# Altium footprint library OWMR.PcbLib: 36 footprints (part 3 of 3)
Each footprint in its own frame and in the unit in brackets; x right, y up, seen from the top. Pads: shape width x height; smd on the part's side, far side on the other; paste and mask are expansions set on the pad; w line width, h text height; cw(c..) or ccw(c..) is an arc to the next point about the centre after c.
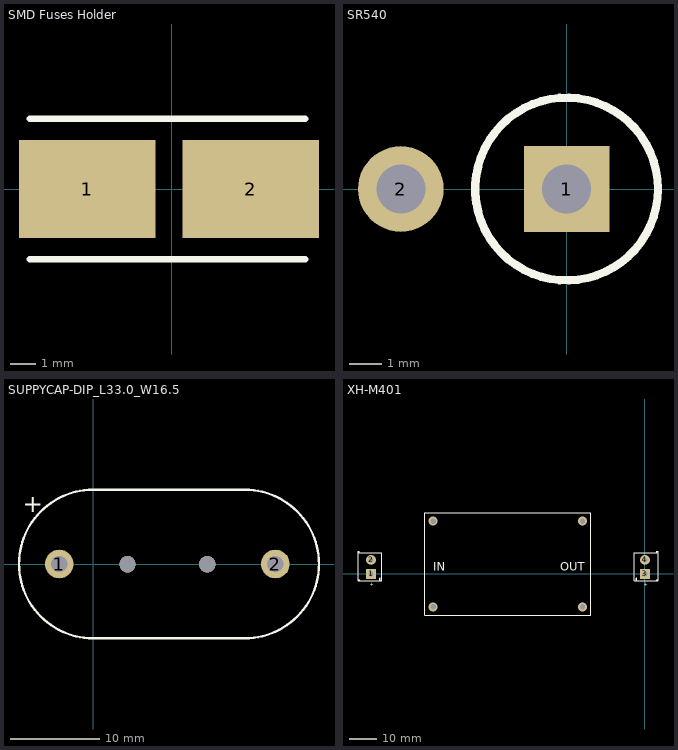
[diagram p2: the footprints below, top view; thin cyan lines are the x and y axes]

## SMD Fuses Holder [mil] "SMD 1808 Fuse Holder"
pads (2):
  rect 210x150 smd: 1(-130,0) 2(121,0)
Top Overlay:
  lines w10: -218.58,-108.27 204.65,-108.27 ; -218.58,108.27 204.65,108.27

## SR540 [mm]
pads (2):
  rect 2.625x2.625 hole 1.5: 1(0,0)
  round 2.625 hole 1.5: 2(-5.08,0)
Top Overlay:
  circle w0.254: c0,0 r2.8

## SUPPYCAP-DIP_L33.0_W16.5 [mm]
pads (2):
  round 3.2 hole 1.83: 1(-3.802,0) 2(20.328,0)
via 3.818,-0.015 diameter 1.83 hole 1.83
via 12.708,-0.015 diameter 1.83 hole 1.83
Top Overlay:
  lines w0.254: 0,-8.3 cw(c0,0) 0,8.3 16.899,8.3 cw(c16.899,0) 16.899,-8.3 0,-8.3
  text "+" at -7.882,5.755 h2

## XH-M401 [mil]
pads (4):
  rect 140x140 hole 70: 1(-3899.21,0) 3(0,0)
  round 140 hole 70: 2(-3899.21,200) 4(0,200)
via -888.98,751.02 diameter 127.95 hole 75
via -888.98,-469.45 diameter 127.95 hole 75
via -3014.96,-469.45 diameter 127.95 hole 75
via -3014.96,751.02 diameter 127.95 hole 75
Top Overlay:
  circle w10: c-3774.61,-74.61 r10
  circle w10: c-124.61,-74.61 r10
  lines w10: -4084.25,-99.96 -4084.25,300 ; -4084.25,-80 -4064.25,-80 -4064.25,-100 ; -4084.21,-100 -3749.61,-100 ; -4064.25,300 -4064.25,320 -4084.25,320 -4084.25,300 ; -3749.61,-99.61 -3749.61,300 -4084.25,300 ; -149.61,-100 185,-100 ; -149.61,-99.61 -149.61,300 185.04,300 ; 165.04,-100 165.04,-80 185.04,-80 ; 165.04,300 165.04,320 185.04,320 185.04,300 ; 185.04,-99.96 185.04,300 ; -3133.07,-587.56 -770.87,-587.56 -770.87,869.13 -3133.07,869.13 -3133.07,-587.56
  text "+" at -15,-173.33 h50
  text "+" at -3914.21,-173.33 h50
  text "IN" at -3014.96,42.36 h118.11
  text "OUT" at -1203.94,42.36 h118.11